# EAGLE library part WE-RJ45-LAN-100BT-POE_7499211125 (library Wurth_Elektronik_EMC_COMPONENTS_rev16c)
WE-RJ45 LAN Transformer Characteristics RJ45 Connector with integrated transformer/ common mode choke Available in SMD, THT and THT with USB 350µH min. OCL with 8mA bias Complies with IEEE 802.3 Extended temperature range -40°C to +85°C available PoE/ PoE+ Applications xDSL Modems Embedded PC LAN Applications Hub, Router, Switches <http://katalog.we-online.de/media/images/v2/Family_RJ45_drei(2).jpg> Details see: http://katalog.we-online.de/en/pbs/WE-LAN-RJ45/7499211125 2016(C) Würth Elektronik
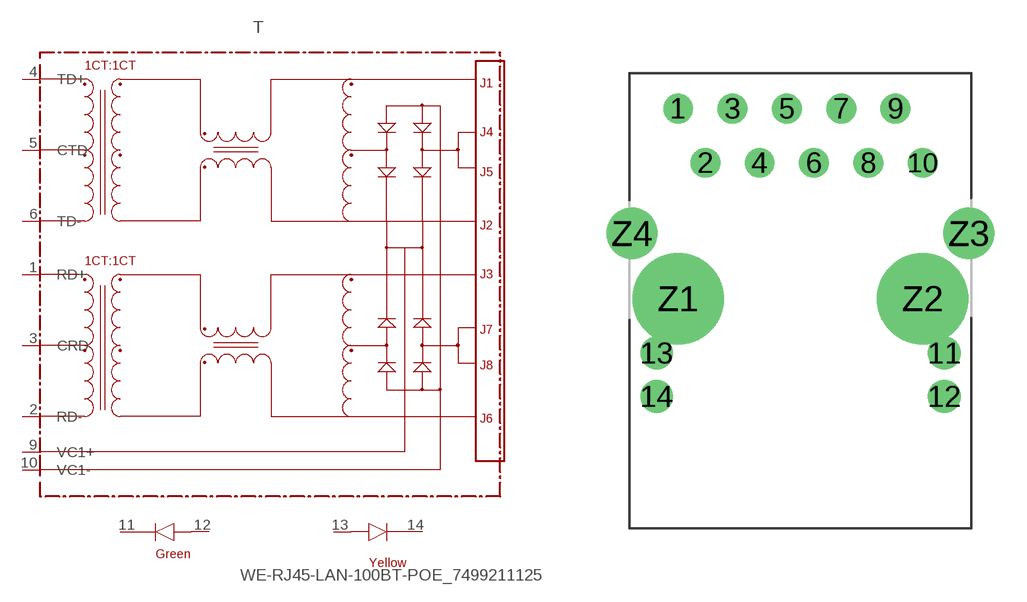
[diagram p230: symbol with the pads of 7499211125; footprint 7499211125]

Designator prefix T

## WE-RJ45-LAN-100BT-POE_7499211125  [7499211125]
1  RD+
2  RD-
3  CRD
4  TD+
5  CTD
6  TD-
9  VC1+
10  VC1-
11  11
12  12
13  13
14  14

## Footprint 7499211125 (pad centres in mm)
drill 0.89: 1 -5.715,8.89; 2 -4.445,6.35; 3 -3.175,8.89; 4 -1.905,6.35; 5 -0.635,8.89; 6 0.635,6.35; 7 1.905,8.89; 8 3.175,6.35; 9 4.445,8.89; 10 5.715,6.35
drill 1.02: 11 6.725,-2.54; 12 6.725,-4.57; 13 -6.725,-2.54; 14 -6.725,-4.57
drill 3.25: Z1 -5.715,0; Z2 5.715,0
drill 1.6: Z3 7.875,3.05; Z4 -7.875,3.05